# EAGLE library part AX6042 (library axsem)
AXSEM high performance narrow band transceiver for 2400-2500 MHz 1 kbps to 200 kbps FSK 1 kbps to 600 kbps ASK & PSK 5 dBm Pout @ 868 MHz Wire mode Raw mode HDLC mode 24 bit FIFO
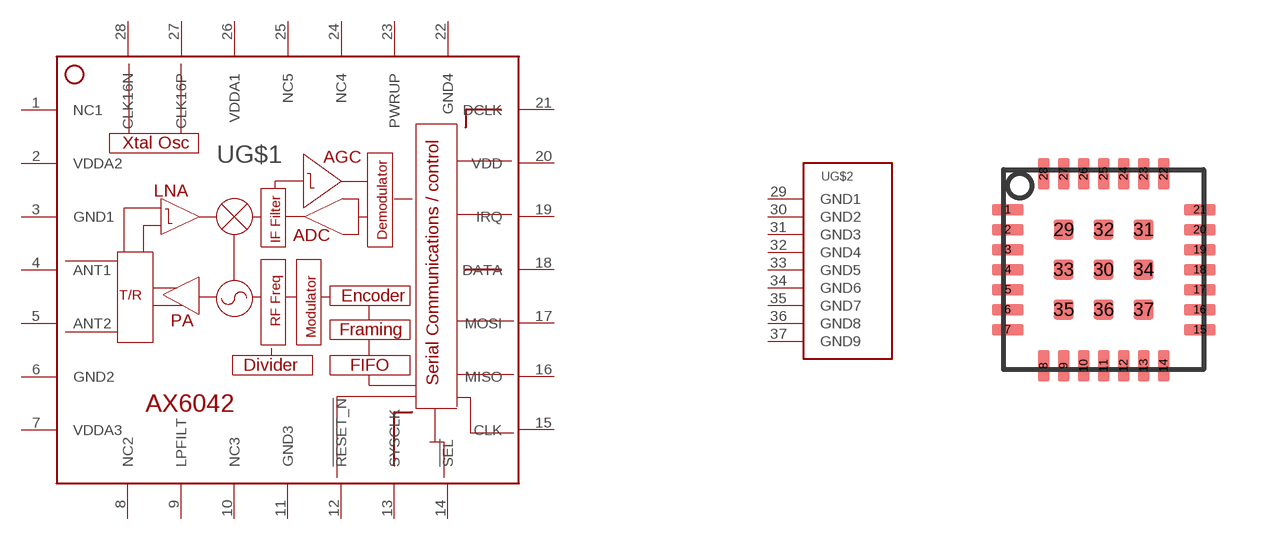
[diagram p4: symbol with the pads of QFN28; footprint QFN28]

Designator prefix -; gates G$1=AX6042 G$2=GROUNDPAD

## AX6042  [QFN28]
1  G$1:NC1  nc
2  G$1:VDDA2  pwr
3  G$1:GND1  pwr
4  G$1:ANT1  pas
5  G$1:ANT2  pas
6  G$1:GND2  pwr
7  G$1:VDDA3  pwr
8  G$1:NC2  nc
9  G$1:LPFILT  pas
10  G$1:NC3  nc
11  G$1:GND3  pwr
12  G$1:!RESET_N  in
13  G$1:SYSCLK  out
14  G$1:!SEL  in
15  G$1:CLK  in
16  G$1:MISO  out
17  G$1:MOSI  in
18  G$1:DATA
19  G$1:IRQ  out
20  G$1:VDD  pwr
21  G$1:DCLK
22  G$1:GND4  pwr
23  G$1:PWRUP
24  G$1:NC4  nc
25  G$1:NC5  nc
26  G$1:VDDA1  pwr
27  G$1:CLK16P  pas
28  G$1:CLK16N  pas
29  G$2:GND1  pwr
30  G$2:GND2  pwr
31  G$2:GND3  pwr
32  G$2:GND4  pwr
33  G$2:GND5  pwr
34  G$2:GND6  pwr
35  G$2:GND7  pwr
36  G$2:GND8  pwr
37  G$2:GND9  pwr

## Footprint QFN28 (pad centres in mm)
AXSEM QFN28 package
smd 0.8 x 0.3: 1 -2.4,1.5; 2 -2.4,1; 3 -2.4,0.5; 4 -2.4,0; 5 -2.4,-0.5; 6 -2.4,-1; 7 -2.4,-1.5; 15 2.4,-1.5; 16 2.4,-1; 17 2.4,-0.5; 18 2.4,0; 19 2.4,0.5; 20 2.4,1; 21 2.4,1.5
smd 0.3 x 0.8: 8 -1.5,-2.4; 9 -1,-2.4; 10 -0.5,-2.4; 11 0,-2.4; 12 0.5,-2.4; 13 1,-2.4; 14 1.5,-2.4; 22 1.5,2.4; 23 1,2.4; 24 0.5,2.4; 25 0,2.4; 26 -0.5,2.4; 27 -1,2.4; 28 -1.5,2.4
smd 0.5 x 0.5: 29 -1,1; 30 0,0; 31 1,1; 32 0,1; 33 -1,0; 34 1,0; 35 -1,-1; 36 0,-1; 37 1,-1